# Altium footprint library PCB - Regulators - SOT-5X3 - TPS562211.PcbLib: 1 footprints
Each footprint in its own frame and in the unit in brackets; x right, y up, seen from the top. Pads: shape width x height; smd on the part's side, far side on the other; paste and mask are expansions set on the pad; w line width, h text height; cw(c..) or ccw(c..) is an arc to the next point about the centre after c.
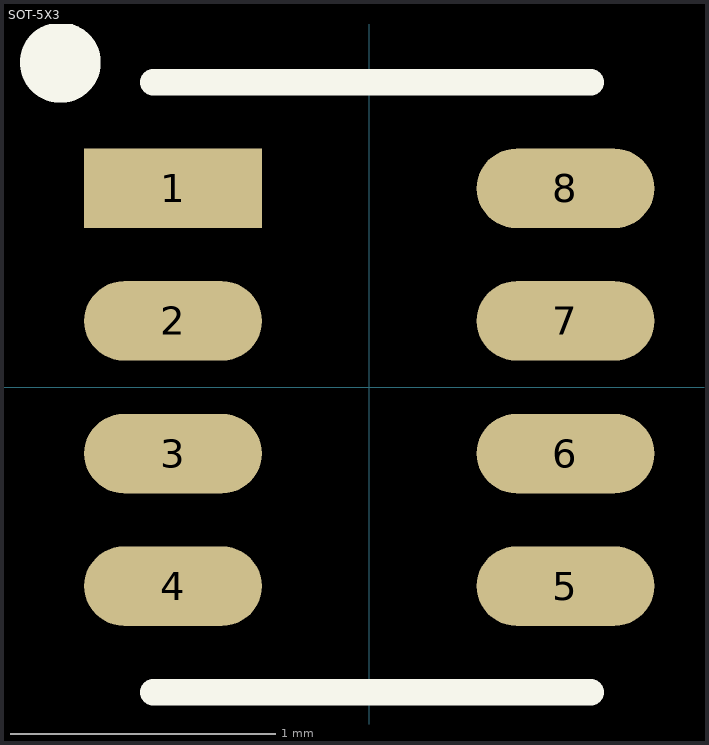
[diagram p0: the footprint, top view; thin cyan lines are the x and y axes]

## SOT-5X3 [mm]
pads (8):
  rect 0.67x0.3 smd mask+0.05: 1(-0.74,0.75)
  oval 0.67x0.3 smd mask+0.05: 2(-0.74,0.25) 3(-0.74,-0.25) 4(-0.74,-0.75) 5(0.74,-0.75) 6(0.74,-0.25) 7(0.74,0.25) 8(0.74,0.75)
Top Overlay:
  circle w0.254: c-1.165,1.225 r0.025
  lines w0.1: -0.815,-1.15 0.835,-1.15 ; -0.815,1.15 0.835,1.15
3D body "SOT583 3D v1.step": height 0.55, standoff -0.05, extent -0.816,-1.05 0.835,1.05